# Altium schematic symbol library Digital_ICs.SchLib: 9 symbols
Pins are listed as number, name and electrical type; pins without a type are passive.

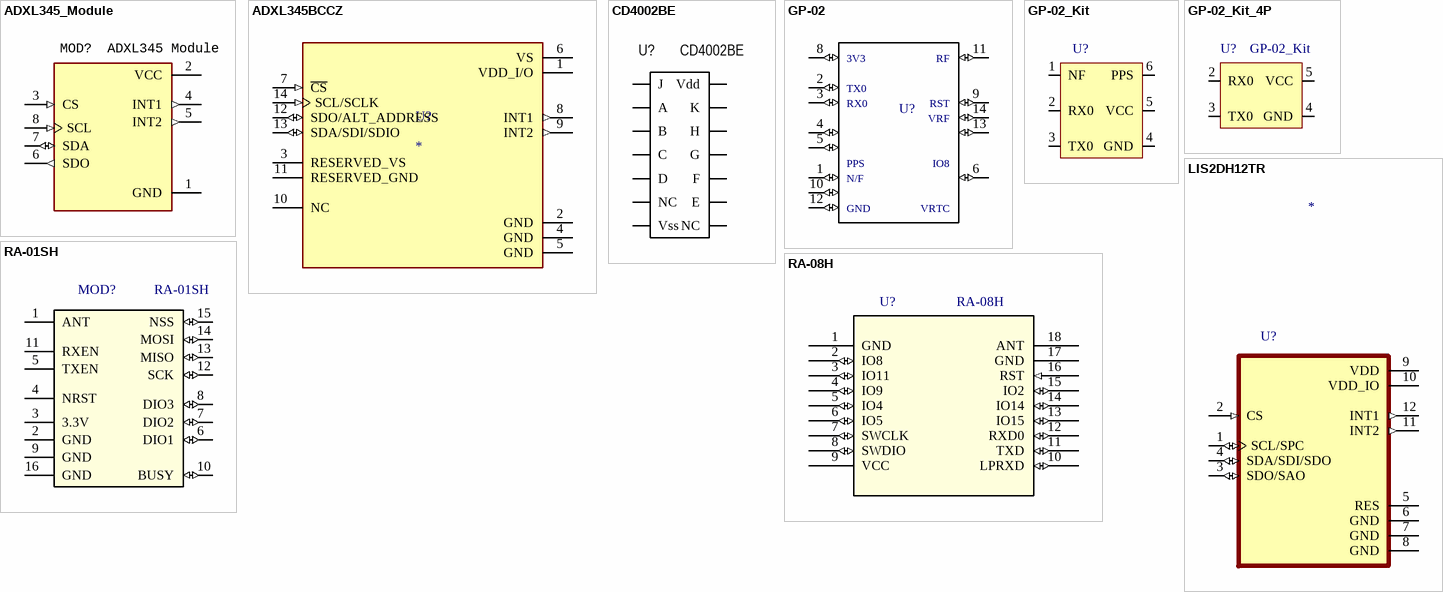
[diagram p0: symbols ADXL345_Module to RA-08H]

## ADXL345_Module
designator MOD?, comment ADXL345 Module
Voltage: 3.1-6V
footprint ADXL345_Module
footprint ADXL345_Module (with headers) (2.54 mm headers welded)
pins: 1 GND (power), 2 VCC (power), 3 CS (in), 4 INT1 (out), 5 INT2 (out), 6 SDO (out), 7 SDA (io), 8 SCL (in)

## ADXL345BCCZ
designator U?
3-Axis, Â±2 g/Â±4 g/Â±8 g/Â±16 g Digital Accelerometer; MF: Analog Devices; MP: ADXL345BCCZ; SnapEDA_Link: https://www.snapeda.com/parts/ADXL345BCCZ/Analog+Devices/view-part/?ref=snap; Package: LGA -14 Analog Devices; Value: *; Check_prices: https://www.snapeda.com/parts/ADXL345BCCZ/Analog+Devices/view-part/?ref=eda
footprint IC_ADXL345BCCZ
pins: 1 VDD_I/O (power), 2 GND (power), 3 RESERVED_VS, 4 GND (power), 5 GND (power), 6 VS (power), 7 ~{CS} (in), 8 INT1 (out), 9 INT2 (out), 10 NC, 11 RESERVED_GND, 12 SDO/ALT_ADDRESS (io), 13 SDA/SDI/SDIO (io), 14 SCL/SCLK (in)

## CD4002BE
designator U?
Two 4-input dual CMOS NOR
footprint DIP-14
footprint DIP-14-bottom-only
pins: 1 J "J=not(A+B+C+D)", 2 A, 3 B, 4 C, 5 D, 6 NC (hiz), 7 Vss, 8 NC (hiz), 9 E, 10 F, 11 G, 12 H, 13 K "K=not(E+F+G+H)", 14 Vdd

## GP-02
designator U?  (value not drawn)
RF Receiver GLONASS, GNSS, GPS -162dBm 256kbps Not Included Module; MF: Ai-Thinker; MP: GP-02; SnapEDA_Link: https://www.snapeda.com/parts/GP-02/AI-Thinker/view-part/?ref=snap; Package: None; Check_prices: https://www.snapeda.com/parts/GP-02/AI-Thinker/view-part/?ref=eda; Value: *
footprint GP-02_FOOTPRINT
pins: 1 P1 (io), 2 P2 (io), 3 P3 (io), 4 P4 (io), 5 P$5 (io), 6 P6 (io), 8 P8 (io), 9 P$9 (io), 10 P10 (io), 11 P$11 (io), 12 P12 (io), 13 P13 (io), 14 P14 (io)
text: 3V3; RF; TX0; RX0; RST; VRF; PPS; IO8; N/F; GND; VRTC

## GP-02_Kit
designator U?  (value not drawn)
RF Receiver GLONASS, GNSS, GPS -162dBm 256kbps Module; MF: Ai-Thinker; MP: GP-02; SnapEDA_Link: https://www.snapeda.com/parts/GP-02/AI-Thinker/view-part/?ref=snap; Package: Harness terminal; Check_prices: https://www.snapeda.com/parts/GP-02/AI-Thinker/view-part/?ref=eda; Value: *
footprint GP-02_Kit_harness_terminal
pins: 1 NF "Shutdown control, keep high level during normal", 2 RX0 "General GPIO，the default is RXD of UART0", 3 TX0 "General GPIO，the default is TXD of UART0", 4 GND "General GPIO，the default is TXD of UART0", 5 VCC "+5V througth 5V to 3.3V converter", 6 PPS "Time pulse signal"

## GP-02_Kit_4P
designator U?, comment GP-02_Kit
(4 main pin instead of 6) / RF Receiver GLONASS, GNSS, GPS -162dBm 256kbps Module; MF: Ai-Thinker; MP: GP-02; SnapEDA_Link: https://www.snapeda.com/parts/GP-02/AI-Thinker/view-part/?ref=snap; Package: Harness terminal; Check_prices: https://www.snapeda.com/parts/GP-02/AI-Thinker/view-part/?ref=eda; Value: *
footprint GP-02_Kit_4P_harness_terminal (Reduced to 4 pin: / RX, TX, VCC, GND); pin to pad 6>1
pins: 2 RX0 "General GPIO，the default is RXD of UART0", 3 TX0 "General GPIO，the default is TXD of UART0", 4 GND "General GPIO，the default is TXD of UART0", 5 VCC "+5V througth 5V to 3.3V converter"

## LIS2DH12TR
designator U?
Accelerometer X, Y, Z Axis Â±2g, 4g, 8g, 16g 0.5Hz ~ 672Hz 12-LGA (2x2); MF: STMicroelectronics; MP: LIS2DH12TR; Package: LGA-12 STMicroelectronics; Availability: In Stock; Value: *; Check_prices: https://www.snapeda.com/parts/LIS2DH12TR/STMicroelectronics/view-part/?ref=eda; Purchase-URL: https://pricing.snapeda.com/search/part/LIS2DH12TR/?ref=eda; Price: None; SnapEDA_Link: https://www.snapeda.com/parts/LIS2DH12TR/STMicroelectronics/view-part/?ref=snap
footprint PQFN50P200X200100-12N
pins: 1 SCL/SPC (io), 2 CS (in), 3 SDO/SAO (io), 4 SDA/SDI/SDO (io), 5 RES (power), 6 GND (power), 7 GND (power), 8 GND (power), 9 VDD (power), 10 VDD_IO (power), 11 INT2 (out), 12 INT1 (out)

## RA-01SH
designator MOD?
LoRa Module; / Semtech SX1262; / 803–930 MHz; / +22 dBm; SPI;; Manufacturer_Name: Ai-Thinker; Voltage: 3.3V; Type: RF; Package: SMD-16 2mm Pitch
footprint RA-01SH (SMD-16 2mm Pitch2)
pins: 1 ANT (hiz), 2 GND (power), 3 3.3V (power), 4 NRST, 5 TXEN "RF control port", 6 DIO1 (io) "Digital IO1 software configuration", 7 DIO2 (io) "Digital IO2 software configuration", 8 DIO3 (io) "Digital IO3 software configuration", 9 GND (power), 10 BUSY (io), 11 RXEN "RF control port", 12 SCK (io) "SPI clock input", 13 MISO (io) "SPI data output", 14 MOSI (io) "SPI data input", 15 NSS (io) "SPI chip select input", 16 GND (power)

## RA-08H
designator U?
Description; Manufacturer_Name: Ai-Thinker; Type: RF; Copyright: Copyright (C) 2025 Ultra Librarian. All rights reserved.; Manufacturer_Part_Number: RA-08H; RefDes: RefDes
footprint MOD18_RA-08H_AIT
footprint MOD18_RA-08H_AIT-L
footprint MOD18_RA-08H_AIT-M
pins: 1 GND (power), 2 IO8 (io), 3 IO11 (io), 4 IO9 (io), 5 IO4 (io), 6 IO5 (io), 7 SWCLK (io), 8 SWDIO (io), 9 VCC (power), 10 LPRXD (io), 11 TXD (io), 12 RXD0 (io), 13 IO15 (io), 14 IO14 (io), 15 IO2 (io), 16 RST (in), 17 GND (power), 18 ANT